# EAGLE library part OPAMP_QUAD (library 2018)
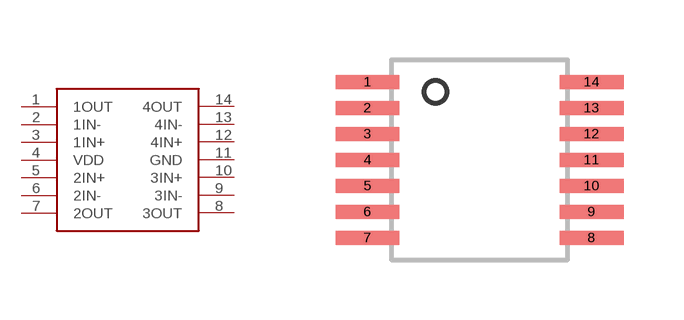
[diagram p8: symbol with the pads of TSSOP-14; footprint TSSOP-14]

Designator prefix -

## OPAMP_QUAD  [TSSOP-14]
1  1OUT
2  1IN-
3  1IN+
4  VDD
5  2IN+
6  2IN-
7  2OUT
8  3OUT
9  3IN-
10  3IN+
11  GND
12  4IN+
13  4IN-
14  4OUT

## Footprint TSSOP-14 (pad centres in mm)
smd 1.6 x 0.35: 1 -2.8,1.95; 2 -2.8,1.3; 3 -2.8,0.65; 4 -2.8,0; 5 -2.8,-0.65; 6 -2.8,-1.3; 7 -2.8,-1.95; 8 2.8,-1.95; 9 2.8,-1.3; 10 2.8,-0.65; 11 2.8,0; 12 2.8,0.65; 13 2.8,1.3; 14 2.8,1.95